# Altium schematic symbol library MAX4544.SchLib: 1 symbol
Pins are listed as number, name and electrical type; pins without a type are passive.

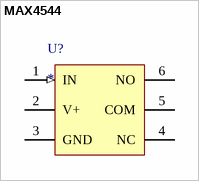
[diagram p0: symbol MAX4544]

## MAX4544
designator U?
Low-Voltage, Single-Supply Dual SPST/SPDT Analog Switches
footprint MAX4544_SOT32_6 (SOT23, 6-Leads, Body 2.90x2.80mm, Pitch 0.95mm, IPC Medium Density)
pins: 1 IN (in), 2 V+ (power), 3 GND (power), 4 NC, 5 COM, 6 NO